# EAGLE library part OMAP-L138ZCE (library Texas Instruments)
OMAP-L138 Low-Power Applications Processor Auto generated by make-symbol-device-package-bsdl.ulp Rev. 30 Source: sprm377a.bsm http://focus.ti.com/lit/ds/symlink/omap-l138.pdf Connect-List generated from OMAPL138ZCE.DEV Variant '' with connect-device-split-symbol-03.ulp
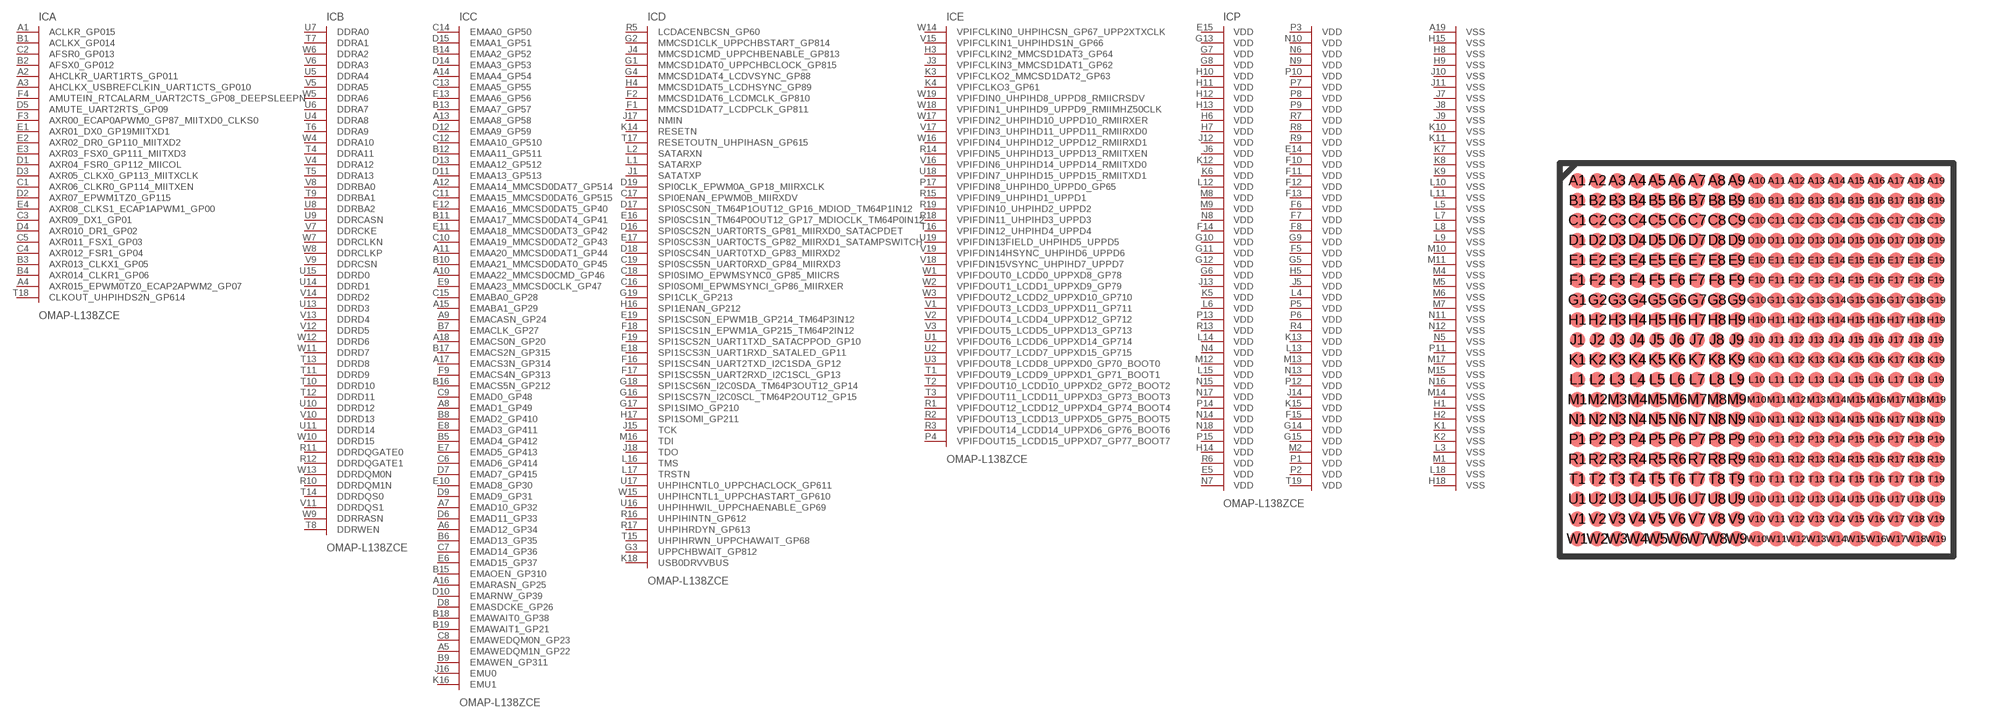
[diagram p72: symbol with the pads of ZCE_S-PBGA-N361; footprint ZCE_S-PBGA-N361]

Designator prefix IC; gates A=OMAP-L138_ZCE-A B=OMAP-L138_ZCE-B C=OMAP-L138_ZCE-C D=OMAP-L138_ZCE-D E=OMAP-L138_ZCE-E P=OMAP-L138_ZCE-P

## OMAP-L138ZCE (OC_FARNELL: unknown; OC_NEWARK: unknown)  [ZCE_S-PBGA-N361]
A1  A:ACLKR_GP015
A2  A:AHCLKR_UART1RTS_GP011
A3  A:AHCLKX_USBREFCLKIN_UART1CTS_GP010
A4  A:AXR015_EPWM0TZ0_ECAP2APWM2_GP07
A5  C:EMAWEDQM1N_GP22
A6  C:EMAD12_GP34
A7  C:EMAD10_GP32
A8  C:EMAD1_GP49
A9  C:EMACASN_GP24
A10  C:EMAA22_MMCSD0CMD_GP46
A11  C:EMAA20_MMCSD0DAT1_GP44
A12  C:EMAA14_MMCSD0DAT7_GP514
A13  C:EMAA8_GP58
A14  C:EMAA4_GP54
A15  C:EMABA1_GP29
A16  C:EMARASN_GP25
A17  C:EMACS3N_GP314
A18  C:EMACS0N_GP20
A19  P:VSS  pwr
B1  A:ACLKX_GP014
B2  A:AFSX0_GP012
B3  A:AXR013_CLKX1_GP05
B4  A:AXR014_CLKR1_GP06
B5  C:EMAD4_GP412
B6  C:EMAD13_GP35
B7  C:EMACLK_GP27
B8  C:EMAD2_GP410
B9  C:EMAWEN_GP311
B10  C:EMAA21_MMCSD0DAT0_GP45
B11  C:EMAA17_MMCSD0DAT4_GP41
B12  C:EMAA11_GP511
B13  C:EMAA7_GP57
B14  C:EMAA2_GP52
B15  C:EMAOEN_GP310
B16  C:EMACS5N_GP212
B17  C:EMACS2N_GP315
B18  C:EMAWAIT0_GP38
B19  C:EMAWAIT1_GP21
C1  A:AXR06_CLKR0_GP114_MIITXEN
C2  A:AFSR0_GP013
C3  A:AXR09_DX1_GP01
C4  A:AXR012_FSR1_GP04
C5  A:AXR011_FSX1_GP03
C6  C:EMAD6_GP414
C7  C:EMAD14_GP36
C8  C:EMAWEDQM0N_GP23
C9  C:EMAD0_GP48
C10  C:EMAA19_MMCSD0DAT2_GP43
C11  C:EMAA15_MMCSD0DAT6_GP515
C12  C:EMAA10_GP510
C13  C:EMAA5_GP55
C14  C:EMAA0_GP50
C15  C:EMABA0_GP28
C16  D:SPI0SOMI_EPWMSYNCI_GP86_MIIRXER
C17  D:SPI0ENAN_EPWM0B_MIIRXDV
C18  D:SPI0SIMO_EPWMSYNC0_GP85_MIICRS
C19  D:SPI0SCS5N_UART0RXD_GP84_MIIRXD3
D1  A:AXR04_FSR0_GP112_MIICOL
D2  A:AXR07_EPWM1TZ0_GP115
D3  A:AXR05_CLKX0_GP113_MIITXCLK
D4  A:AXR010_DR1_GP02
D5  A:AMUTE_UART2RTS_GP09
D6  C:EMAD11_GP33
D7  C:EMAD7_GP415
D8  C:EMASDCKE_GP26
D9  C:EMAD9_GP31
D10  C:EMARNW_GP39
D11  C:EMAA13_GP513
D12  C:EMAA9_GP59
D13  C:EMAA12_GP512
D14  C:EMAA3_GP53
D15  C:EMAA1_GP51
D16  D:SPI0SCS2N_UART0RTS_GP81_MIIRXD0_SATACPDET
D17  D:SPI0SCS0N_TM64P1OUT12_GP16_MDIOD_TM64P1IN12
D18  D:SPI0SCS4N_UART0TXD_GP83_MIIRXD2
D19  D:SPI0CLK_EPWM0A_GP18_MIIRXCLK
E1  A:AXR01_DX0_GP19MIITXD1
E2  A:AXR02_DR0_GP110_MIITXD2
E3  A:AXR03_FSX0_GP111_MIITXD3
E4  A:AXR08_CLKS1_ECAP1APWM1_GP00
E5  P:VDD  pwr
E6  C:EMAD15_GP37
E7  C:EMAD5_GP413
E8  C:EMAD3_GP411
E9  C:EMAA23_MMCSD0CLK_GP47
E10  C:EMAD8_GP30
E11  C:EMAA18_MMCSD0DAT3_GP42
E12  C:EMAA16_MMCSD0DAT5_GP40
E13  C:EMAA6_GP56
E14  P:VDD  pwr
E15  P:VDD  pwr
E16  D:SPI0SCS1N_TM64P0OUT12_GP17_MDIOCLK_TM64P0IN12
E17  D:SPI0SCS3N_UART0CTS_GP82_MIIRXD1_SATAMPSWITCH
E18  D:SPI1SCS3N_UART1RXD_SATALED_GP11
E19  D:SPI1SCS0N_EPWM1B_GP214_TM64P3IN12
F1  D:MMCSD1DAT7_LCDPCLK_GP811
F2  D:MMCSD1DAT6_LCDMCLK_GP810
F3  A:AXR00_ECAP0APWM0_GP87_MIITXD0_CLKS0
F4  A:AMUTEIN_RTCALARM_UART2CTS_GP08_DEEPSLEEPN
F5  P:VDD  pwr
F6  P:VDD  pwr
F7  P:VDD  pwr
F8  P:VDD  pwr
F9  C:EMACS4N_GP313
F10  P:VDD  pwr
F11  P:VDD  pwr
F12  P:VDD  pwr
F13  P:VDD  pwr
F14  P:VDD  pwr
F15  P:VDD  pwr
F16  D:SPI1SCS4N_UART2TXD_I2C1SDA_GP12
F17  D:SPI1SCS5N_UART2RXD_I2C1SCL_GP13
F18  D:SPI1SCS1N_EPWM1A_GP215_TM64P2IN12
F19  D:SPI1SCS2N_UART1TXD_SATACPPOD_GP10
G1  D:MMCSD1DAT0_UPPCHBCLOCK_GP815
G2  D:MMCSD1CLK_UPPCHBSTART_GP814
G3  D:UPPCHBWAIT_GP812
G4  D:MMCSD1DAT4_LCDVSYNC_GP88
G5  P:VDD  pwr
G6  P:VDD  pwr
G7  P:VDD  pwr
G8  P:VDD  pwr
G9  P:VDD  pwr
G10  P:VDD  pwr
G11  P:VDD  pwr
G12  P:VDD  pwr
G13  P:VDD  pwr
G14  P:VDD  pwr
G15  P:VDD  pwr
G16  D:SPI1SCS7N_I2C0SCL_TM64P2OUT12_GP15
G17  D:SPI1SIMO_GP210
G18  D:SPI1SCS6N_I2C0SDA_TM64P3OUT12_GP14
G19  D:SPI1CLK_GP213
H1  P:VSS  pwr
H2  P:VSS  pwr
H3  E:VPIFCLKIN2_MMCSD1DAT3_GP64
H4  D:MMCSD1DAT5_LCDHSYNC_GP89
H5  P:VDD  pwr
H6  P:VDD  pwr
H7  P:VDD  pwr
H8  P:VSS  pwr
H9  P:VSS  pwr
H10  P:VDD  pwr
H11  P:VDD  pwr
H12  P:VDD  pwr
H13  P:VDD  pwr
H14  P:VDD  pwr
H15  P:VSS  pwr
H16  D:SPI1ENAN_GP212
H17  D:SPI1SOMI_GP211
H18  P:VSS  pwr
J1  D:SATATXP  hiz
J3  E:VPIFCLKIN3_MMCSD1DAT1_GP62
J4  D:MMCSD1CMD_UPPCHBENABLE_GP813
J5  P:VDD  pwr
J6  P:VDD  pwr
J7  P:VSS  pwr
J8  P:VSS  pwr
J9  P:VSS  pwr
J10  P:VSS  pwr
J11  P:VSS  pwr
J12  P:VDD  pwr
J13  P:VDD  pwr
J14  P:VDD  pwr
J15  D:TCK  in
J16  C:EMU0
J17  D:NMIN  in
J18  D:TDO  out
K1  P:VSS  pwr
K2  P:VSS  pwr
K3  E:VPIFCLKO2_MMCSD1DAT2_GP63
K4  E:VPIFCLKO3_GP61
K5  P:VDD  pwr
K6  P:VDD  pwr
K7  P:VSS  pwr
K8  P:VSS  pwr
K9  P:VSS  pwr
K10  P:VSS  pwr
K11  P:VSS  pwr
K12  P:VDD  pwr
K13  P:VDD  pwr
K14  D:RESETN  in
K15  P:VDD  pwr
K16  C:EMU1
K18  D:USB0DRVVBUS
L1  D:SATARXP  in
L2  D:SATARXN  in
L3  P:VSS  pwr
L4  P:VDD  pwr
L5  P:VSS  pwr
L6  P:VDD  pwr
L7  P:VSS  pwr
L8  P:VSS  pwr
L9  P:VSS  pwr
L10  P:VSS  pwr
L11  P:VSS  pwr
L12  P:VDD  pwr
L13  P:VDD  pwr
L14  P:VDD  pwr
L15  P:VDD  pwr
L16  D:TMS  in
L17  D:TRSTN  in
L18  P:VSS  pwr
M1  P:VSS  pwr
M2  P:VDD  pwr
M4  P:VSS  pwr
M5  P:VSS  pwr
M6  P:VSS  pwr
M7  P:VSS  pwr
M8  P:VDD  pwr
M9  P:VDD  pwr
M10  P:VSS  pwr
M11  P:VSS  pwr
M12  P:VDD  pwr
M13  P:VDD  pwr
M14  P:VSS  pwr
M15  P:VSS  pwr
M16  D:TDI  in
M17  P:VSS  pwr
N4  P:VDD  pwr
N5  P:VSS  pwr
N6  P:VDD  pwr
N7  P:VDD  pwr
N8  P:VDD  pwr
N9  P:VDD  pwr
N10  P:VDD  pwr
N11  P:VSS  pwr
N12  P:VSS  pwr
N13  P:VDD  pwr
N14  P:VDD  pwr
N15  P:VDD  pwr
N16  P:VSS  pwr
N17  P:VDD  pwr
N18  P:VDD  pwr
P1  P:VDD  pwr
P2  P:VDD  pwr
P3  P:VDD  pwr
P4  E:VPIFDOUT15_LCDD15_UPPXD7_GP77_BOOT7
P5  P:VDD  pwr
P6  P:VDD  pwr
P7  P:VDD  pwr
P8  P:VDD  pwr
P9  P:VDD  pwr
P10  P:VDD  pwr
P11  P:VSS  pwr
P12  P:VDD  pwr
P13  P:VDD  pwr
P14  P:VDD  pwr
P15  P:VDD  pwr
P17  E:VPIFDIN8_UHPIHD0_UPPD0_GP65
R1  E:VPIFDOUT12_LCDD12_UPPXD4_GP74_BOOT4
R2  E:VPIFDOUT13_LCDD13_UPPXD5_GP75_BOOT5
R3  E:VPIFDOUT14_LCDD14_UPPXD6_GP76_BOOT6
R4  P:VDD  pwr
R5  D:LCDACENBCSN_GP60
R6  P:VDD  pwr
R7  P:VDD  pwr
R8  P:VDD  pwr
R9  P:VDD  pwr
R10  B:DDRDQM1N
R11  B:DDRDQGATE0
R12  B:DDRDQGATE1
R13  P:VDD  pwr
R14  E:VPIFDIN5_UHPIHD13_UPPD13_RMIITXEN
R15  E:VPIFDIN9_UHPIHD1_UPPD1
R16  D:UHPIHINTN_GP612
R17  D:UHPIHRDYN_GP613
R18  E:VPIFDIN11_UHPIHD3_UPPD3
R19  E:VPIFDIN10_UHPIHD2_UPPD2
T1  E:VPIFDOUT9_LCDD9_UPPXD1_GP71_BOOT1
T2  E:VPIFDOUT10_LCDD10_UPPXD2_GP72_BOOT2
T3  E:VPIFDOUT11_LCDD11_UPPXD3_GP73_BOOT3
T4  B:DDRA11
T5  B:DDRA13
T6  B:DDRA9
T7  B:DDRA1
T8  B:DDRWEN
T9  B:DDRBA1
T10  B:DDRD10
T11  B:DDRD9
T12  B:DDRD11
T13  B:DDRD8
T14  B:DDRDQS0
T15  D:UHPIHRWN_UPPCHAWAIT_GP68
T16  E:VPIFDIN12_UHPIHD4_UPPD4
T17  D:RESETOUTN_UHPIHASN_GP615
T18  A:CLKOUT_UHPIHDS2N_GP614
T19  P:VDD  pwr
U1  E:VPIFDOUT6_LCDD6_UPPXD14_GP714
U2  E:VPIFDOUT7_LCDD7_UPPXD15_GP715
U3  E:VPIFDOUT8_LCDD8_UPPXD0_GP70_BOOT0
U4  B:DDRA8
U5  B:DDRA4
U6  B:DDRA7
U7  B:DDRA0
U8  B:DDRBA2
U9  B:DDRCASN
U10  B:DDRD12
U11  B:DDRD14
U13  B:DDRD3
U14  B:DDRD1
U15  B:DDRD0
U16  D:UHPIHHWIL_UPPCHAENABLE_GP69
U17  D:UHPIHCNTL0_UPPCHACLOCK_GP611
U18  E:VPIFDIN7_UHPIHD15_UPPD15_RMIITXD1
U19  E:VPIFDIN13FIELD_UHPIHD5_UPPD5
V1  E:VPIFDOUT3_LCDD3_UPPXD11_GP711
V2  E:VPIFDOUT4_LCDD4_UPPXD12_GP712
V3  E:VPIFDOUT5_LCDD5_UPPXD13_GP713
V4  B:DDRA12
V5  B:DDRA5
V6  B:DDRA3
V7  B:DDRCKE
V8  B:DDRBA0
V9  B:DDRCSN
V10  B:DDRD13
V11  B:DDRDQS1
V12  B:DDRD5
V13  B:DDRD4
V14  B:DDRD2
V15  E:VPIFCLKIN1_UHPIHDS1N_GP66
V16  E:VPIFDIN6_UHPIHD14_UPPD14_RMIITXD0
V17  E:VPIFDIN3_UHPIHD11_UPPD11_RMIIRXD0
V18  E:VPIFDIN15VSYNC_UHPIHD7_UPPD7
V19  E:VPIFDIN14HSYNC_UHPIHD6_UPPD6
W1  E:VPIFDOUT0_LCDD0_UPPXD8_GP78
W2  E:VPIFDOUT1_LCDD1_UPPXD9_GP79
W3  E:VPIFDOUT2_LCDD2_UPPXD10_GP710
W4  B:DDRA10
W5  B:DDRA6
W6  B:DDRA2
W7  B:DDRCLKN
W8  B:DDRCLKP
W9  B:DDRRASN
W10  B:DDRD15
W11  B:DDRD7
W12  B:DDRD6
W13  B:DDRDQM0N
W14  E:VPIFCLKIN0_UHPIHCSN_GP67_UPP2XTXCLK
W15  D:UHPIHCNTL1_UPPCHASTART_GP610
W16  E:VPIFDIN4_UHPIHD12_UPPD12_RMIIRXD1
W17  E:VPIFDIN2_UHPIHD10_UPPD10_RMIIRXER
W18  E:VPIFDIN1_UHPIHD9_UPPD9_RMIIMHZ50CLK
W19  E:VPIFDIN0_UHPIHD8_UPPD8_RMIICRSDV

## Footprint ZCE_S-PBGA-N361 (pad centres in mm)
ZCE (S-PBGA-N361) Auto generated by make-symbol-device-package-bsdl.ulp Rev. 30 Source: sprm377a.bsm http://focus.ti.com/lit/ds/symlink/omap-l138.pdf
smd 0.5 x 0.5: A1 -5.85,5.85; A2 -5.2,5.85; A3 -4.55,5.85; A4 -3.9,5.85; A5 -3.25,5.85; A6 -2.6,5.85; A7 -1.95,5.85; A8 -1.3,5.85; A9 -0.65,5.85; A10 0,5.85; A11 0.65,5.85; A12 1.3,5.85; A13 1.95,5.85; A14 2.6,5.85; A15 3.25,5.85; A16 3.9,5.85; A17 4.55,5.85; A18 5.2,5.85; A19 5.85,5.85; B1 -5.85,5.2; B2 -5.2,5.2; B3 -4.55,5.2; B4 -3.9,5.2; B5 -3.25,5.2; B6 -2.6,5.2; B7 -1.95,5.2; B8 -1.3,5.2; B9 -0.65,5.2; B10 0,5.2; B11 0.65,5.2; B12 1.3,5.2; B13 1.95,5.2; B14 2.6,5.2; B15 3.25,5.2; B16 3.9,5.2; B17 4.55,5.2; B18 5.2,5.2; B19 5.85,5.2; C1 -5.85,4.55; C2 -5.2,4.55; C3 -4.55,4.55; C4 -3.9,4.55; C5 -3.25,4.55; C6 -2.6,4.55; C7 -1.95,4.55; C8 -1.3,4.55; C9 -0.65,4.55; C10 0,4.55; C11 0.65,4.55; C12 1.3,4.55; C13 1.95,4.55; C14 2.6,4.55; C15 3.25,4.55; C16 3.9,4.55; C17 4.55,4.55; C18 5.2,4.55; C19 5.85,4.55; D1 -5.85,3.9; D2 -5.2,3.9; D3 -4.55,3.9; D4 -3.9,3.9; D5 -3.25,3.9; D6 -2.6,3.9; D7 -1.95,3.9; D8 -1.3,3.9; D9 -0.65,3.9; D10 0,3.9; D11 0.65,3.9; D12 1.3,3.9; D13 1.95,3.9; D14 2.6,3.9; D15 3.25,3.9; D16 3.9,3.9; D17 4.55,3.9; D18 5.2,3.9; D19 5.85,3.9; E1 -5.85,3.25; E2 -5.2,3.25; E3 -4.55,3.25; E4 -3.9,3.25; E5 -3.25,3.25; E6 -2.6,3.25; E7 -1.95,3.25; E8 -1.3,3.25; E9 -0.65,3.25; E10 0,3.25; E11 0.65,3.25; E12 1.3,3.25; E13 1.95,3.25; E14 2.6,3.25; E15 3.25,3.25; E16 3.9,3.25; E17 4.55,3.25; E18 5.2,3.25; E19 5.85,3.25; F1 -5.85,2.6; F2 -5.2,2.6; F3 -4.55,2.6; F4 -3.9,2.6; F5 -3.25,2.6; F6 -2.6,2.6; F7 -1.95,2.6; F8 -1.3,2.6; F9 -0.65,2.6; F10 0,2.6; F11 0.65,2.6; F12 1.3,2.6; F13 1.95,2.6; F14 2.6,2.6; F15 3.25,2.6; F16 3.9,2.6; F17 4.55,2.6; F18 5.2,2.6; F19 5.85,2.6; G1 -5.85,1.95; G2 -5.2,1.95; G3 -4.55,1.95; G4 -3.9,1.95; G5 -3.25,1.95; G6 -2.6,1.95; G7 -1.95,1.95; G8 -1.3,1.95; G9 -0.65,1.95; G10 0,1.95; G11 0.65,1.95; G12 1.3,1.95; G13 1.95,1.95; G14 2.6,1.95; G15 3.25,1.95; G16 3.9,1.95; G17 4.55,1.95; G18 5.2,1.95; G19 5.85,1.95; H1 -5.85,1.3; H2 -5.2,1.3; H3 -4.55,1.3; H4 -3.9,1.3; H5 -3.25,1.3; H6 -2.6,1.3; H7 -1.95,1.3; H8 -1.3,1.3; H9 -0.65,1.3; H10 0,1.3; H11 0.65,1.3; H12 1.3,1.3; H13 1.95,1.3; H14 2.6,1.3; H15 3.25,1.3; H16 3.9,1.3; H17 4.55,1.3; H18 5.2,1.3; H19 5.85,1.3; J1 -5.85,0.65; J2 -5.2,0.65; J3 -4.55,0.65; J4 -3.9,0.65; J5 -3.25,0.65; J6 -2.6,0.65; J7 -1.95,0.65; J8 -1.3,0.65; J9 -0.65,0.65; J10 0,0.65; J11 0.65,0.65; J12 1.3,0.65; J13 1.95,0.65; J14 2.6,0.65; J15 3.25,0.65; J16 3.9,0.65; J17 4.55,0.65; J18 5.2,0.65; J19 5.85,0.65; K1 -5.85,0; K2 -5.2,0; K3 -4.55,0; K4 -3.9,0; K5 -3.25,0; K6 -2.6,0; K7 -1.95,0; K8 -1.3,0; K9 -0.65,0; K10 0,0; K11 0.65,0; K12 1.3,0; K13 1.95,0; K14 2.6,0; K15 3.25,0; K16 3.9,0; K17 4.55,0; K18 5.2,0; K19 5.85,0; L1 -5.85,-0.65; L2 -5.2,-0.65; L3 -4.55,-0.65; L4 -3.9,-0.65; L5 -3.25,-0.65; L6 -2.6,-0.65; L7 -1.95,-0.65; L8 -1.3,-0.65; L9 -0.65,-0.65; L10 0,-0.65; L11 0.65,-0.65; L12 1.3,-0.65; L13 1.95,-0.65; L14 2.6,-0.65; L15 3.25,-0.65; L16 3.9,-0.65; L17 4.55,-0.65; L18 5.2,-0.65; L19 5.85,-0.65; M1 -5.85,-1.3; M2 -5.2,-1.3; M3 -4.55,-1.3; M4 -3.9,-1.3; M5 -3.25,-1.3; M6 -2.6,-1.3; M7 -1.95,-1.3; M8 -1.3,-1.3; M9 -0.65,-1.3; M10 0,-1.3; M11 0.65,-1.3; M12 1.3,-1.3; M13 1.95,-1.3; M14 2.6,-1.3; M15 3.25,-1.3; M16 3.9,-1.3; M17 4.55,-1.3; M18 5.2,-1.3; M19 5.85,-1.3; N1 -5.85,-1.95; N2 -5.2,-1.95; N3 -4.55,-1.95; N4 -3.9,-1.95; N5 -3.25,-1.95; N6 -2.6,-1.95; N7 -1.95,-1.95; N8 -1.3,-1.95; N9 -0.65,-1.95; N10 0,-1.95; N11 0.65,-1.95; N12 1.3,-1.95; N13 1.95,-1.95; N14 2.6,-1.95; N15 3.25,-1.95; N16 3.9,-1.95; N17 4.55,-1.95; N18 5.2,-1.95; N19 5.85,-1.95; P1 -5.85,-2.6; P2 -5.2,-2.6; P3 -4.55,-2.6; P4 -3.9,-2.6; P5 -3.25,-2.6; P6 -2.6,-2.6; P7 -1.95,-2.6; P8 -1.3,-2.6; P9 -0.65,-2.6; P10 0,-2.6; P11 0.65,-2.6; P12 1.3,-2.6; P13 1.95,-2.6; P14 2.6,-2.6; P15 3.25,-2.6; P16 3.9,-2.6; P17 4.55,-2.6; P18 5.2,-2.6; P19 5.85,-2.6; R1 -5.85,-3.25; R2 -5.2,-3.25; R3 -4.55,-3.25; R4 -3.9,-3.25; R5 -3.25,-3.25; R6 -2.6,-3.25; R7 -1.95,-3.25; R8 -1.3,-3.25; R9 -0.65,-3.25; R10 0,-3.25; R11 0.65,-3.25; R12 1.3,-3.25; R13 1.95,-3.25; R14 2.6,-3.25; R15 3.25,-3.25; R16 3.9,-3.25; R17 4.55,-3.25; R18 5.2,-3.25; R19 5.85,-3.25; T1 -5.85,-3.9; T2 -5.2,-3.9; T3 -4.55,-3.9; T4 -3.9,-3.9; T5 -3.25,-3.9; T6 -2.6,-3.9; T7 -1.95,-3.9; T8 -1.3,-3.9; T9 -0.65,-3.9; T10 0,-3.9; T11 0.65,-3.9; T12 1.3,-3.9; T13 1.95,-3.9; T14 2.6,-3.9; T15 3.25,-3.9; T16 3.9,-3.9; T17 4.55,-3.9; T18 5.2,-3.9; T19 5.85,-3.9; U1 -5.85,-4.55; U2 -5.2,-4.55; U3 -4.55,-4.55; U4 -3.9,-4.55; U5 -3.25,-4.55; U6 -2.6,-4.55; U7 -1.95,-4.55; U8 -1.3,-4.55; U9 -0.65,-4.55; U10 0,-4.55; U11 0.65,-4.55; U12 1.3,-4.55; U13 1.95,-4.55; U14 2.6,-4.55; U15 3.25,-4.55; U16 3.9,-4.55; U17 4.55,-4.55; U18 5.2,-4.55; U19 5.85,-4.55; V1 -5.85,-5.2; V2 -5.2,-5.2; V3 -4.55,-5.2; V4 -3.9,-5.2; V5 -3.25,-5.2; V6 -2.6,-5.2; V7 -1.95,-5.2; V8 -1.3,-5.2; V9 -0.65,-5.2; V10 0,-5.2; V11 0.65,-5.2; V12 1.3,-5.2; V13 1.95,-5.2; V14 2.6,-5.2; V15 3.25,-5.2; V16 3.9,-5.2; V17 4.55,-5.2; V18 5.2,-5.2; V19 5.85,-5.2; W1 -5.85,-5.85; W2 -5.2,-5.85; W3 -4.55,-5.85; W4 -3.9,-5.85; W5 -3.25,-5.85; W6 -2.6,-5.85; W7 -1.95,-5.85; W8 -1.3,-5.85; W9 -0.65,-5.85; W10 0,-5.85; W11 0.65,-5.85; W12 1.3,-5.85; W13 1.95,-5.85; W14 2.6,-5.85; W15 3.25,-5.85; W16 3.9,-5.85; W17 4.55,-5.85; W18 5.2,-5.85; W19 5.85,-5.85